# EAGLE library part CONN_USB_A (library vikc-connector)
USB connector Type A right angle
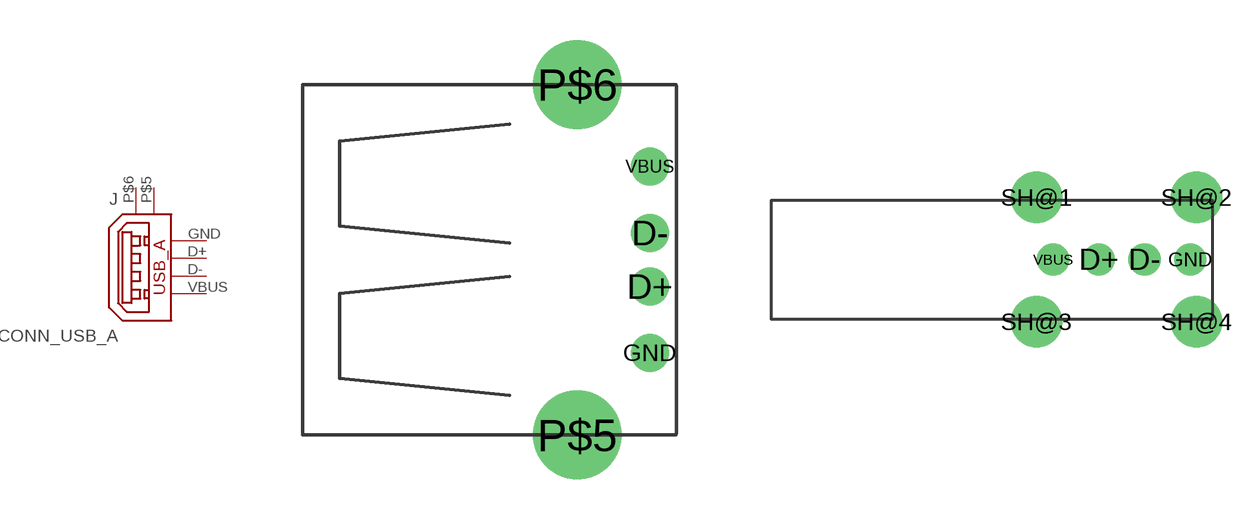
[diagram p4: symbol with the pads of USB-A-H; footprints USB-A-H, USB-A-HU]

Designator prefix J

## CONN_USB_A90H  [USB-A-H]
D+  D+
D-  D-
GND  GND  pwr
P$5  SH
P$6  SH
VBUS  VBUS  pwr

## CONN_USB_A90V  [USB-A-HU]
D+  D+
D-  D-
GND  GND  pwr
SH@1  SH
SH@2  SH
SH@3  SH
SH@4  SH
VBUS  VBUS  pwr

## Footprint USB-A-H (pad centres in mm)
USB Series A Hole Mounted
drill 0.914: D+ 2.718,-1.003; D- 2.718,1.003; GND 2.718,-3.493; VBUS 2.718,3.493
drill 2.311: P$5 0,-6.566; P$6 0,6.566

## Footprint USB-A-HU (pad centres in mm)
USB Series A Hole Mounted Up-Right
drill 0.9: D+ 2.73,0; D- 4.73,0; GND 6.73,0; VBUS 0.73,0
drill 1.5: SH@1 0,2.72; SH@2 7,2.72; SH@3 0,-2.72; SH@4 7,-2.72